# Altium integrated library FA26X7R1E106KRU00.IntLib: 1 symbol
Pins are listed as number, name and electrical type; pins without a type are passive.

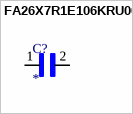
[diagram p0: symbol FA26X7R1E106KRU00]

## FA26X7R1E106KRU00
designator C?
10 ÂµF Â±10% 25V Ceramic Capacitor X7R Radial; MF: TDK; MP: FA26X7R1E106KRU00; Purchase-URL: https://pricing.snapeda.com/search/part/FA26X7R1E106KRU00/?ref=eda; SnapEDA_Link: https://www.snapeda.com/parts/FA26X7R1E106KRU00/TDK/view-part/?ref=snap; Package: Radial TDK; Value: *; Check_prices: https://www.snapeda.com/parts/FA26X7R1E106KRU00/TDK/view-part/?ref=eda
footprint CAPRB500W50L550T350H600
pins: 1, 2